# Altium schematic symbol library R_ANSI.SchLib: 10 symbols
Pins are listed as number, name and electrical type; pins without a type are passive.

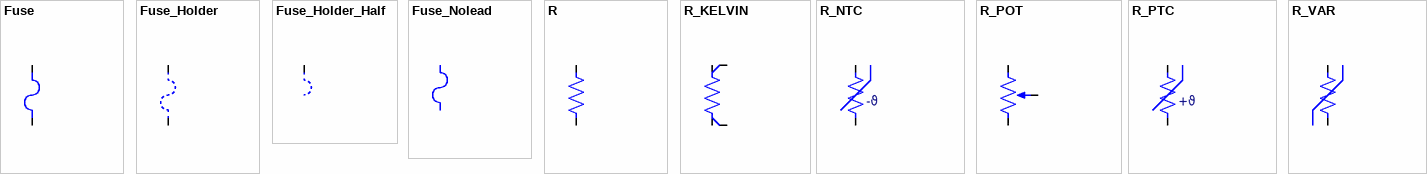
[diagram p0: symbols Fuse to R_VAR]

## Fuse
designator F?
Generic fuse symbol / American drawing style
pins: 1, 2

## Fuse_Holder
designator F?
Generic fuse holder symbol / American drawing style
pins: 1, 2

## Fuse_Holder_Half
designator F?
Generic fuse holder symbol / American drawing style
pins: 1

## Fuse_Nolead
designator F?
Generic fuse symbol without leads / American drawing style

## R
designator R?
Generic resistor symbol / American drawing style
pins: 1, 2

## R_KELVIN
designator R?
Generic resistor symbol with kelvin connection / American drawing style
pins: 1, 1K, 2, 2K

## R_NTC
designator R?
Generic negative temperature coefficient (NTC) resistor symbol / American drawing style
pins: 1, 2
text: -ϑ

## R_POT
designator R?
Generic potentiometer symbol / American drawing style
pins: 1, 2, 3

## R_PTC
designator R?
Generic positive temperature coefficient (PTC) resistor symbol / American drawing style
pins: 1, 2
text: +ϑ

## R_VAR
designator R?
Generic Varistor / American drawing style
pins: 1, 2